# EAGLE library part PICAXE-18M (library bt_pic)
PICAXE 18 pin BASIC microcontroller chip PICAXE is a neat entry-level microcontroller system that is relatively cheap to get started with. The chip is programmed with a simple serial connection and the BASIC development environment is free! PICAXE has some excellent educational applications and support, and is a great entryway into more complicated embedded systems. If you’re look for a place to start with microcontrollers, PICAXE is a great way to go! datasheet.pdf <http://www.rev-ed.co.uk/docs/picaxe_manual1.pdf>
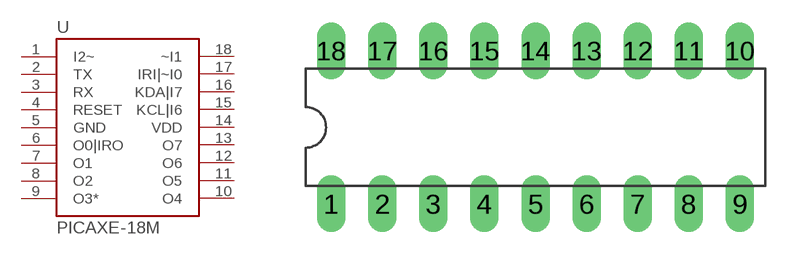
[diagram p7: symbol with the pads of DIL18; footprint DIL18]

Designator prefix U

## PICAXE-18M  [DIL18]
1  I2~  in
2  TX  out
3  RX  in
4  RESET
5  GND  pwr
6  O0|IRO  out
7  O1  out
8  O2  out
9  O3*  out
10  O4  out
11  O5  out
12  O6  out
13  O7  out
14  VDD  pwr
15  KCL|I6  in
16  KDA|I7  in
17  IRI|~I0  in
18  ~I1  in

## Footprint DIL18 (pad centres in mm)
drill 0.813 pad 1.422 long: 1 -10.16,-3.81; 2 -7.62,-3.81; 3 -5.08,-3.81; 4 -2.54,-3.81; 5 0,-3.81; 6 2.54,-3.81; 7 5.08,-3.81; 8 7.62,-3.81; 9 10.16,-3.81; 10 10.16,3.81; 11 7.62,3.81; 12 5.08,3.81; 13 2.54,3.81; 14 0,3.81; 15 -2.54,3.81; 16 -5.08,3.81; 17 -7.62,3.81; 18 -10.16,3.81